# EAGLE library part ADM3260 (library FSAE Electric)
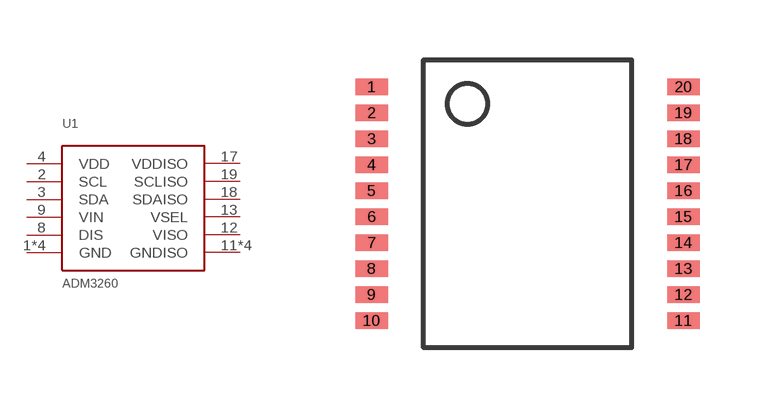
[diagram p75: symbol with the pads of SSOP-20; footprint SSOP-20]

Designator prefix U1

## ADM3260ARSZ-RL7 (PARTNO: ADM3260ARSZ-RL7)  [SSOP-20]
1  GND
2  SCL
3  SDA
4  VDD
5  GND
7  GND
8  DIS
9  VIN
10  GND
11  GNDISO
12  VISO
13  VSEL
14  GNDISO
16  GNDISO
17  VDDISO
18  SDAISO
19  SCLISO
20  GNDISO

## Footprint SSOP-20 (pad centres in mm)
smd 0.813 x 0.406: 1 -3.9,2.925; 2 -3.9,2.275; 3 -3.9,1.625; 4 -3.9,0.975; 5 -3.9,0.325; 6 -3.9,-0.325; 7 -3.9,-0.975; 8 -3.9,-1.625; 9 -3.9,-2.275; 10 -3.9,-2.925; 11 3.9,-2.925; 12 3.9,-2.275; 13 3.9,-1.625; 14 3.9,-0.975; 15 3.9,-0.325; 16 3.9,0.325; 17 3.9,0.975; 18 3.9,1.625; 19 3.9,2.275; 20 3.9,2.925